# Altium schematic symbol library ir.SCHLIB: 4 symbols
Pins are listed as number, name and electrical type; pins without a type are passive.

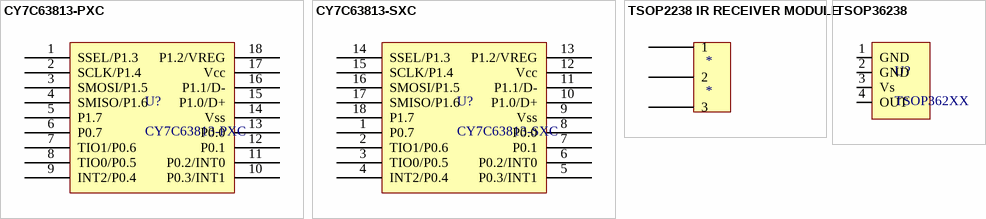
[diagram p0: symbols CY7C63813-PXC to TSOP36238]

## CY7C63813-PXC
designator U?
USB microcontroller
footprint DIP-18 (DIP; 18 Leads; Row Spacing 7.62 mm; Pitch 2.54 mm)
pins: 1 SSEL/P1.3, 2 SCLK/P1.4, 3 SMOSI/P1.5, 4 SMISO/P1.6, 5 P1.7, 6 P0.7, 7 TIO1/P0.6, 8 TIO0/P0.5, 9 INT2/P0.4, 10 P0.3/INT1, 11 P0.2/INT0, 12 P0.1, 13 P0.0, 14 Vss, 15 P1.0/D+, 16 P1.1/D-, 17 Vcc, 18 P1.2/VREG

## CY7C63813-SXC
designator U?
USB microcontroller, SMT
footprint DIP-18 (DIP; 18 Leads; Row Spacing 7.62 mm; Pitch 2.54 mm)
footprint SO-G18/E6.2 (Small Outline; 18 Leads; Body Width 7.5 mm; Pitch 1.27 mm)
pins: 1 P0.7, 2 TIO1/P0.6, 3 TIO0/P0.5, 4 INT2/P0.4, 5 P0.3/INT1, 6 P0.2/INT0, 7 P0.1, 8 P0.0, 9 Vss, 10 P1.0/D+, 11 P1.1/D-, 12 Vcc, 13 P1.2/VREG, 14 SSEL/P1.3, 15 SCLK/P1.4, 16 SMOSI/P1.5, 17 SMISO/P1.6, 18 P1.7

## TSOP2238 IR RECEIVER MODULE
designator *
footprint vishay1 (small IR receiver)
pins: 1 (oc) "Out", 2 (power) "Vin", 3 "Gnd"

## TSOP36238
designator U?, comment TSOP362XX
footprint TSOP 362XX (SMT IR receiver module)
footprint Model Name (Model Description)
pins: 1 GND, 2 GND, 3 Vs, 4 OUT